# Altium integrated library Silicon Labs Clocks and Oscillators.IntLib: 678 symbols (part 27 of 45)
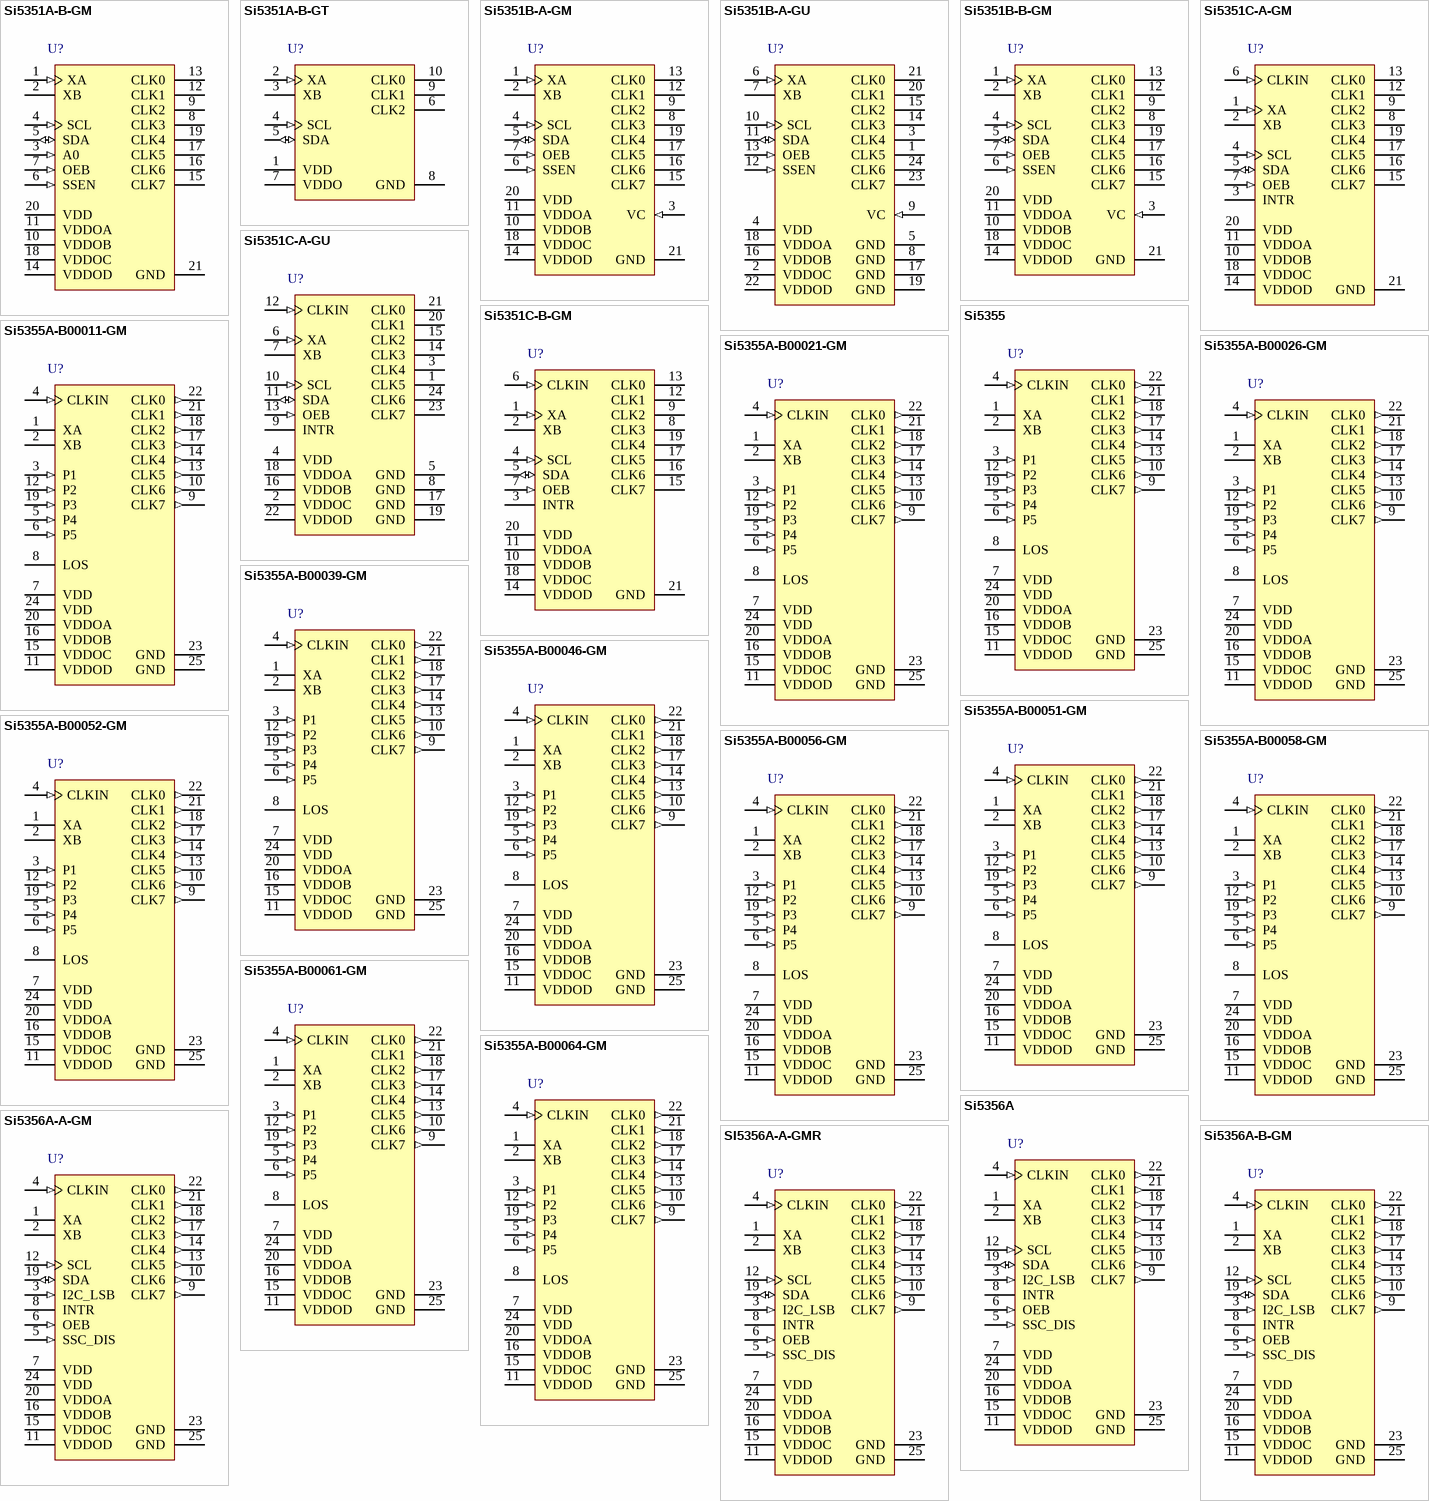
[diagram p70: symbols Si5351A-B-GM to Si5356A-B-GM]

## Si5355A-B00046-GM
designator U?
Any-Frequency Quad Frequency 8-Output Clock Generator, 1.8 / 2.5 / 3.3 V, 1 to 200 MHz Output, -40 to 85 degC, 24-pin QFN, Tray; Manufacturer: Silicon Labs; PartNumber: Si5355A-B00046-GM; Output Format: LVCMOS; Output Frequency (MHz): 1 to 200; Reference Inputs: 1; VDD: 1.8 V; 2.5 V; 3.3 V; Sub-Family: Clock Generators part2; DatasheetVersion: Rev. 1.1; PackageReference: QFN-24; PackageDescription: 24-Pin Quad-Flat No-Leads Package, Body 4 x 4 mm, Pitch 0.5 mm; Supplier 1: Mouser; Supplier Part Number 1: 634-SI5355AB00046-GM; Mounting Technology: Surface Mount; Code_JEDEC: MO-220; Code_IPC: J-STD-020; ComponentLink1Description: Manufacturer URL; ComponentLink1URL: http://www.silabs.com/; ComponentLink2Description: Datasheet; ComponentLink2URL: http://www.silabs.com/Support%20Documents/TechnicalDocs/Si5355.pdf; ComponentLink3Description: Package Specification; ComponentLink3URL: http://www.silabs.com/Support%20Documents/TechnicalDocs/Si5330.pdf
footprint SLAB-QFN-24-2500x2500TP_N (QFN, 24-Leads, Body 4x4mm, Pitch 0.5mm, Thermal Pad 2.5x2.5mm, IPC Medium Density)
footprint SLAB-QFN-24-2500x2500TP_L (QFN, 24-Leads, Body 4x4mm, Pitch 0.5mm, Thermal Pad 2.5x2.5mm, IPC High Density)
footprint SLAB-QFN-24-2500x2500TP_M (QFN, 24-Leads, Body 4x4mm, Pitch 0.5mm, Thermal Pad 2.5x2.5mm, IPC Low Density)
pins: 1 XA "External Crystal.", 2 XB "External Crystal.", 3 P1 (in) "Multi-Function Input (3.3 V Tolerant).", 4 CLKIN (in) "Single-Ended Input Clock.", 5 P4 (in) "Multi-Function Input.", 6 P5 (in) "Multi-Function Input.", 7 VDD (power) "Core Supply Voltage.", 8 LOS (oc) "Loss of Signal.", 9 CLK7 (out) "Output Clock 7.", 10 CLK6 (out) "Output Clock 6.", 11 VDDOD (power) "Clock Output Bank D Supply Voltage.", 12 P2 (in) "Multi-Function Input (3.3 V Tolerant).", 13 CLK5 (out) "Output Clock 5.", 14 CLK4 (out) "Output Clock 4.", 15 VDDOC (power) "Clock Output Bank C Supply Voltage.", 16 VDDOB (power) "Clock Output Bank B Supply Voltage.", 17 CLK3 (out) "Output Clock 3.", 18 CLK2 (out) "Output Clock 2.", 19 P3 (in) "Multi-Function Input (3.3 V Tolerant).", 20 VDDOA (power) "Clock Output Bank A Supply Voltage.", 21 CLK1 (out) "Output Clock 1.", 22 CLK0 (out) "Output Clock 0.", 23 GND (power) "Ground.", 24 VDD (power) "Core Supply Voltage.", 25 GND (power) "Ground Pad."

## Si5355A-B00051-GM
designator U?
Any-Frequency Quad Frequency 8-Output Clock Generator, 1.8 / 2.5 / 3.3 V, 1 to 200 MHz Output, -40 to 85 degC, 24-pin QFN, Tray; Manufacturer: Silicon Labs; PartNumber: Si5355A-B00051-GM; Output Format: LVCMOS; Output Frequency (MHz): 1 to 200; Reference Inputs: 1; VDD: 1.8 V; 2.5 V; 3.3 V; Sub-Family: Clock Generators part2; DatasheetVersion: Rev. 1.1; PackageReference: QFN-24; PackageDescription: 24-Pin Quad-Flat No-Leads Package, Body 4 x 4 mm, Pitch 0.5 mm; Supplier 1: Mouser; Supplier Part Number 1: 634-SI5355AB00051-GM; Mounting Technology: Surface Mount; Code_JEDEC: MO-220; Code_IPC: J-STD-020; ComponentLink1Description: Manufacturer URL; ComponentLink1URL: http://www.silabs.com/; ComponentLink2Description: Datasheet; ComponentLink2URL: http://www.silabs.com/Support%20Documents/TechnicalDocs/Si5355.pdf; ComponentLink3Description: Package Specification; ComponentLink3URL: http://www.silabs.com/Support%20Documents/TechnicalDocs/Si5330.pdf
footprint SLAB-QFN-24-2500x2500TP_N (QFN, 24-Leads, Body 4x4mm, Pitch 0.5mm, Thermal Pad 2.5x2.5mm, IPC Medium Density)
footprint SLAB-QFN-24-2500x2500TP_L (QFN, 24-Leads, Body 4x4mm, Pitch 0.5mm, Thermal Pad 2.5x2.5mm, IPC High Density)
footprint SLAB-QFN-24-2500x2500TP_M (QFN, 24-Leads, Body 4x4mm, Pitch 0.5mm, Thermal Pad 2.5x2.5mm, IPC Low Density)
pins: 1 XA "External Crystal.", 2 XB "External Crystal.", 3 P1 (in) "Multi-Function Input (3.3 V Tolerant).", 4 CLKIN (in) "Single-Ended Input Clock.", 5 P4 (in) "Multi-Function Input.", 6 P5 (in) "Multi-Function Input.", 7 VDD (power) "Core Supply Voltage.", 8 LOS (oc) "Loss of Signal.", 9 CLK7 (out) "Output Clock 7.", 10 CLK6 (out) "Output Clock 6.", 11 VDDOD (power) "Clock Output Bank D Supply Voltage.", 12 P2 (in) "Multi-Function Input (3.3 V Tolerant).", 13 CLK5 (out) "Output Clock 5.", 14 CLK4 (out) "Output Clock 4.", 15 VDDOC (power) "Clock Output Bank C Supply Voltage.", 16 VDDOB (power) "Clock Output Bank B Supply Voltage.", 17 CLK3 (out) "Output Clock 3.", 18 CLK2 (out) "Output Clock 2.", 19 P3 (in) "Multi-Function Input (3.3 V Tolerant).", 20 VDDOA (power) "Clock Output Bank A Supply Voltage.", 21 CLK1 (out) "Output Clock 1.", 22 CLK0 (out) "Output Clock 0.", 23 GND (power) "Ground.", 24 VDD (power) "Core Supply Voltage.", 25 GND (power) "Ground Pad."

## Si5355A-B00052-GM
designator U?
Any-Frequency Quad Frequency 8-Output Clock Generator, 1.8 / 2.5 / 3.3 V, 1 to 200 MHz Output, -40 to 85 degC, 24-pin QFN, Tray; Manufacturer: Silicon Labs; PartNumber: Si5355A-B00052-GM; Output Format: LVCMOS; Output Frequency (MHz): 1 to 200; Reference Inputs: 1; VDD: 1.8 V; 2.5 V; 3.3 V; Sub-Family: Clock Generators part2; DatasheetVersion: Rev. 1.1; PackageReference: QFN-24; PackageDescription: 24-Pin Quad-Flat No-Leads Package, Body 4 x 4 mm, Pitch 0.5 mm; Supplier 1: Mouser; Supplier Part Number 1: 634-SI5355AB00052-GM; Mounting Technology: Surface Mount; Code_JEDEC: MO-220; Code_IPC: J-STD-020; ComponentLink1Description: Manufacturer URL; ComponentLink1URL: http://www.silabs.com/; ComponentLink2Description: Datasheet; ComponentLink2URL: http://www.silabs.com/Support%20Documents/TechnicalDocs/Si5355.pdf; ComponentLink3Description: Package Specification; ComponentLink3URL: http://www.silabs.com/Support%20Documents/TechnicalDocs/Si5330.pdf
footprint SLAB-QFN-24-2500x2500TP_N (QFN, 24-Leads, Body 4x4mm, Pitch 0.5mm, Thermal Pad 2.5x2.5mm, IPC Medium Density)
footprint SLAB-QFN-24-2500x2500TP_L (QFN, 24-Leads, Body 4x4mm, Pitch 0.5mm, Thermal Pad 2.5x2.5mm, IPC High Density)
footprint SLAB-QFN-24-2500x2500TP_M (QFN, 24-Leads, Body 4x4mm, Pitch 0.5mm, Thermal Pad 2.5x2.5mm, IPC Low Density)
pins: 1 XA "External Crystal.", 2 XB "External Crystal.", 3 P1 (in) "Multi-Function Input (3.3 V Tolerant).", 4 CLKIN (in) "Single-Ended Input Clock.", 5 P4 (in) "Multi-Function Input.", 6 P5 (in) "Multi-Function Input.", 7 VDD (power) "Core Supply Voltage.", 8 LOS (oc) "Loss of Signal.", 9 CLK7 (out) "Output Clock 7.", 10 CLK6 (out) "Output Clock 6.", 11 VDDOD (power) "Clock Output Bank D Supply Voltage.", 12 P2 (in) "Multi-Function Input (3.3 V Tolerant).", 13 CLK5 (out) "Output Clock 5.", 14 CLK4 (out) "Output Clock 4.", 15 VDDOC (power) "Clock Output Bank C Supply Voltage.", 16 VDDOB (power) "Clock Output Bank B Supply Voltage.", 17 CLK3 (out) "Output Clock 3.", 18 CLK2 (out) "Output Clock 2.", 19 P3 (in) "Multi-Function Input (3.3 V Tolerant).", 20 VDDOA (power) "Clock Output Bank A Supply Voltage.", 21 CLK1 (out) "Output Clock 1.", 22 CLK0 (out) "Output Clock 0.", 23 GND (power) "Ground.", 24 VDD (power) "Core Supply Voltage.", 25 GND (power) "Ground Pad."

## Si5355A-B00056-GM
designator U?
Any-Frequency Quad Frequency 8-Output Clock Generator, 1.8 / 2.5 / 3.3 V, 1 to 200 MHz Output, -40 to 85 degC, 24-pin QFN, Tray; Manufacturer: Silicon Labs; PartNumber: Si5355A-B00056-GM; Output Format: LVCMOS; Output Frequency (MHz): 1 to 200; Reference Inputs: 1; VDD: 1.8 V; 2.5 V; 3.3 V; Sub-Family: Clock Generators part2; DatasheetVersion: Rev. 1.1; PackageReference: QFN-24; PackageDescription: 24-Pin Quad-Flat No-Leads Package, Body 4 x 4 mm, Pitch 0.5 mm; Supplier 1: Mouser; Supplier Part Number 1: 634-SI5355AB00056-GM; Mounting Technology: Surface Mount; Code_JEDEC: MO-220; Code_IPC: J-STD-020; ComponentLink1Description: Manufacturer URL; ComponentLink1URL: http://www.silabs.com/; ComponentLink2Description: Datasheet; ComponentLink2URL: http://www.silabs.com/Support%20Documents/TechnicalDocs/Si5355.pdf; ComponentLink3Description: Package Specification; ComponentLink3URL: http://www.silabs.com/Support%20Documents/TechnicalDocs/Si5330.pdf
footprint SLAB-QFN-24-2500x2500TP_N (QFN, 24-Leads, Body 4x4mm, Pitch 0.5mm, Thermal Pad 2.5x2.5mm, IPC Medium Density)
footprint SLAB-QFN-24-2500x2500TP_L (QFN, 24-Leads, Body 4x4mm, Pitch 0.5mm, Thermal Pad 2.5x2.5mm, IPC High Density)
footprint SLAB-QFN-24-2500x2500TP_M (QFN, 24-Leads, Body 4x4mm, Pitch 0.5mm, Thermal Pad 2.5x2.5mm, IPC Low Density)
pins: 1 XA "External Crystal.", 2 XB "External Crystal.", 3 P1 (in) "Multi-Function Input (3.3 V Tolerant).", 4 CLKIN (in) "Single-Ended Input Clock.", 5 P4 (in) "Multi-Function Input.", 6 P5 (in) "Multi-Function Input.", 7 VDD (power) "Core Supply Voltage.", 8 LOS (oc) "Loss of Signal.", 9 CLK7 (out) "Output Clock 7.", 10 CLK6 (out) "Output Clock 6.", 11 VDDOD (power) "Clock Output Bank D Supply Voltage.", 12 P2 (in) "Multi-Function Input (3.3 V Tolerant).", 13 CLK5 (out) "Output Clock 5.", 14 CLK4 (out) "Output Clock 4.", 15 VDDOC (power) "Clock Output Bank C Supply Voltage.", 16 VDDOB (power) "Clock Output Bank B Supply Voltage.", 17 CLK3 (out) "Output Clock 3.", 18 CLK2 (out) "Output Clock 2.", 19 P3 (in) "Multi-Function Input (3.3 V Tolerant).", 20 VDDOA (power) "Clock Output Bank A Supply Voltage.", 21 CLK1 (out) "Output Clock 1.", 22 CLK0 (out) "Output Clock 0.", 23 GND (power) "Ground.", 24 VDD (power) "Core Supply Voltage.", 25 GND (power) "Ground Pad."

## Si5355A-B00058-GM
designator U?
Any-Frequency Quad Frequency 8-Output Clock Generator, 1.8 / 2.5 / 3.3 V, 1 to 200 MHz Output, -40 to 85 degC, 24-pin QFN, Tray; Manufacturer: Silicon Labs; PartNumber: Si5355A-B00058-GM; Output Format: LVCMOS; Output Frequency (MHz): 1 to 200; Reference Inputs: 1; VDD: 1.8 V; 2.5 V; 3.3 V; Sub-Family: Clock Generators part2; DatasheetVersion: Rev. 1.1; PackageReference: QFN-24; PackageDescription: 24-Pin Quad-Flat No-Leads Package, Body 4 x 4 mm, Pitch 0.5 mm; Supplier 1: Mouser; Supplier Part Number 1: 634-SI5355AB00058-GM; Mounting Technology: Surface Mount; Code_JEDEC: MO-220; Code_IPC: J-STD-020; ComponentLink1Description: Manufacturer URL; ComponentLink1URL: http://www.silabs.com/; ComponentLink2Description: Datasheet; ComponentLink2URL: http://www.silabs.com/Support%20Documents/TechnicalDocs/Si5355.pdf; ComponentLink3Description: Package Specification; ComponentLink3URL: http://www.silabs.com/Support%20Documents/TechnicalDocs/Si5330.pdf
footprint SLAB-QFN-24-2500x2500TP_N (QFN, 24-Leads, Body 4x4mm, Pitch 0.5mm, Thermal Pad 2.5x2.5mm, IPC Medium Density)
footprint SLAB-QFN-24-2500x2500TP_L (QFN, 24-Leads, Body 4x4mm, Pitch 0.5mm, Thermal Pad 2.5x2.5mm, IPC High Density)
footprint SLAB-QFN-24-2500x2500TP_M (QFN, 24-Leads, Body 4x4mm, Pitch 0.5mm, Thermal Pad 2.5x2.5mm, IPC Low Density)
pins: 1 XA "External Crystal.", 2 XB "External Crystal.", 3 P1 (in) "Multi-Function Input (3.3 V Tolerant).", 4 CLKIN (in) "Single-Ended Input Clock.", 5 P4 (in) "Multi-Function Input.", 6 P5 (in) "Multi-Function Input.", 7 VDD (power) "Core Supply Voltage.", 8 LOS (oc) "Loss of Signal.", 9 CLK7 (out) "Output Clock 7.", 10 CLK6 (out) "Output Clock 6.", 11 VDDOD (power) "Clock Output Bank D Supply Voltage.", 12 P2 (in) "Multi-Function Input (3.3 V Tolerant).", 13 CLK5 (out) "Output Clock 5.", 14 CLK4 (out) "Output Clock 4.", 15 VDDOC (power) "Clock Output Bank C Supply Voltage.", 16 VDDOB (power) "Clock Output Bank B Supply Voltage.", 17 CLK3 (out) "Output Clock 3.", 18 CLK2 (out) "Output Clock 2.", 19 P3 (in) "Multi-Function Input (3.3 V Tolerant).", 20 VDDOA (power) "Clock Output Bank A Supply Voltage.", 21 CLK1 (out) "Output Clock 1.", 22 CLK0 (out) "Output Clock 0.", 23 GND (power) "Ground.", 24 VDD (power) "Core Supply Voltage.", 25 GND (power) "Ground Pad."

## Si5355A-B00061-GM
designator U?
Any-Frequency Quad Frequency 8-Output Clock Generator, 1.8 / 2.5 / 3.3 V, 1 to 200 MHz Output, -40 to 85 degC, 24-pin QFN, Tray; Manufacturer: Silicon Labs; PartNumber: Si5355A-B00061-GM; Output Format: LVCMOS; Output Frequency (MHz): 1 to 200; Reference Inputs: 1; VDD: 1.8 V; 2.5 V; 3.3 V; Sub-Family: Clock Generators part2; DatasheetVersion: Rev. 1.1; PackageReference: QFN-24; PackageDescription: 24-Pin Quad-Flat No-Leads Package, Body 4 x 4 mm, Pitch 0.5 mm; Supplier 1: Mouser; Supplier Part Number 1: 634-SI5355AB00061-GM; Mounting Technology: Surface Mount; Code_JEDEC: MO-220; Code_IPC: J-STD-020; ComponentLink1Description: Manufacturer URL; ComponentLink1URL: http://www.silabs.com/; ComponentLink2Description: Datasheet; ComponentLink2URL: http://www.silabs.com/Support%20Documents/TechnicalDocs/Si5355.pdf; ComponentLink3Description: Package Specification; ComponentLink3URL: http://www.silabs.com/Support%20Documents/TechnicalDocs/Si5330.pdf
footprint SLAB-QFN-24-2500x2500TP_N (QFN, 24-Leads, Body 4x4mm, Pitch 0.5mm, Thermal Pad 2.5x2.5mm, IPC Medium Density)
footprint SLAB-QFN-24-2500x2500TP_L (QFN, 24-Leads, Body 4x4mm, Pitch 0.5mm, Thermal Pad 2.5x2.5mm, IPC High Density)
footprint SLAB-QFN-24-2500x2500TP_M (QFN, 24-Leads, Body 4x4mm, Pitch 0.5mm, Thermal Pad 2.5x2.5mm, IPC Low Density)
pins: 1 XA "External Crystal.", 2 XB "External Crystal.", 3 P1 (in) "Multi-Function Input (3.3 V Tolerant).", 4 CLKIN (in) "Single-Ended Input Clock.", 5 P4 (in) "Multi-Function Input.", 6 P5 (in) "Multi-Function Input.", 7 VDD (power) "Core Supply Voltage.", 8 LOS (oc) "Loss of Signal.", 9 CLK7 (out) "Output Clock 7.", 10 CLK6 (out) "Output Clock 6.", 11 VDDOD (power) "Clock Output Bank D Supply Voltage.", 12 P2 (in) "Multi-Function Input (3.3 V Tolerant).", 13 CLK5 (out) "Output Clock 5.", 14 CLK4 (out) "Output Clock 4.", 15 VDDOC (power) "Clock Output Bank C Supply Voltage.", 16 VDDOB (power) "Clock Output Bank B Supply Voltage.", 17 CLK3 (out) "Output Clock 3.", 18 CLK2 (out) "Output Clock 2.", 19 P3 (in) "Multi-Function Input (3.3 V Tolerant).", 20 VDDOA (power) "Clock Output Bank A Supply Voltage.", 21 CLK1 (out) "Output Clock 1.", 22 CLK0 (out) "Output Clock 0.", 23 GND (power) "Ground.", 24 VDD (power) "Core Supply Voltage.", 25 GND (power) "Ground Pad."

## Si5355A-B00064-GM
designator U?
Any-Frequency Quad Frequency 8-Output Clock Generator, 1.8 / 2.5 / 3.3 V, 1 to 200 MHz Output, -40 to 85 degC, 24-pin QFN, Tray; Manufacturer: Silicon Labs; PartNumber: Si5355A-B00064-GM; Output Format: LVCMOS; Output Frequency (MHz): 1 to 200; Reference Inputs: 1; VDD: 1.8 V; 2.5 V; 3.3 V; Sub-Family: Clock Generators part2; DatasheetVersion: Rev. 1.1; PackageReference: QFN-24; PackageDescription: 24-Pin Quad-Flat No-Leads Package, Body 4 x 4 mm, Pitch 0.5 mm; Supplier 1: Mouser; Supplier Part Number 1: 634-SI5355AB00064-GM; Mounting Technology: Surface Mount; Code_JEDEC: MO-220; Code_IPC: J-STD-020; ComponentLink1Description: Manufacturer URL; ComponentLink1URL: http://www.silabs.com/; ComponentLink2Description: Datasheet; ComponentLink2URL: http://www.silabs.com/Support%20Documents/TechnicalDocs/Si5355.pdf; ComponentLink3Description: Package Specification; ComponentLink3URL: http://www.silabs.com/Support%20Documents/TechnicalDocs/Si5330.pdf
footprint SLAB-QFN-24-2500x2500TP_N (QFN, 24-Leads, Body 4x4mm, Pitch 0.5mm, Thermal Pad 2.5x2.5mm, IPC Medium Density)
footprint SLAB-QFN-24-2500x2500TP_L (QFN, 24-Leads, Body 4x4mm, Pitch 0.5mm, Thermal Pad 2.5x2.5mm, IPC High Density)
footprint SLAB-QFN-24-2500x2500TP_M (QFN, 24-Leads, Body 4x4mm, Pitch 0.5mm, Thermal Pad 2.5x2.5mm, IPC Low Density)
pins: 1 XA "External Crystal.", 2 XB "External Crystal.", 3 P1 (in) "Multi-Function Input (3.3 V Tolerant).", 4 CLKIN (in) "Single-Ended Input Clock.", 5 P4 (in) "Multi-Function Input.", 6 P5 (in) "Multi-Function Input.", 7 VDD (power) "Core Supply Voltage.", 8 LOS (oc) "Loss of Signal.", 9 CLK7 (out) "Output Clock 7.", 10 CLK6 (out) "Output Clock 6.", 11 VDDOD (power) "Clock Output Bank D Supply Voltage.", 12 P2 (in) "Multi-Function Input (3.3 V Tolerant).", 13 CLK5 (out) "Output Clock 5.", 14 CLK4 (out) "Output Clock 4.", 15 VDDOC (power) "Clock Output Bank C Supply Voltage.", 16 VDDOB (power) "Clock Output Bank B Supply Voltage.", 17 CLK3 (out) "Output Clock 3.", 18 CLK2 (out) "Output Clock 2.", 19 P3 (in) "Multi-Function Input (3.3 V Tolerant).", 20 VDDOA (power) "Clock Output Bank A Supply Voltage.", 21 CLK1 (out) "Output Clock 1.", 22 CLK0 (out) "Output Clock 0.", 23 GND (power) "Ground.", 24 VDD (power) "Core Supply Voltage.", 25 GND (power) "Ground Pad."

## Si5356A
designator U?
I2C Programmable, Any-Frequency, Quad Frequency 8-Output Clock Generator, 1.8 / 2.5 / 3.3 V, 1 to 200 MHz Output, -40 to 85 degC, 24-pin QFN; Manufacturer: Silicon Labs; PartNumber: Si5356A; Output Format: LVCMOS; Output Frequency (MHz): 1 to 200; Reference Inputs: 1; VDD: 1.8 V; 2.5 V; 3.3 V; Sub-Family: Clock Generators; DatasheetVersion: Rev. 1.2; PackageReference: QFN-24; PackageDescription: 24-Pin Quad-Flat No-Leads Package, Body 4 x 4 mm, Pitch 0.5 mm; Mounting Technology: Surface Mount; Code_JEDEC: MO-220; Code_IPC: J-STD-020; ComponentLink1Description: Manufacturer URL; ComponentLink1URL: http://www.silabs.com/; ComponentLink2Description: Datasheet; ComponentLink2URL: http://www.silabs.com/Support%20Documents/TechnicalDocs/Si5356A.pdf; ComponentLink3Description: Package Specification; ComponentLink3URL: http://www.silabs.com/Support%20Documents/TechnicalDocs/Si5330.pdf
footprint SLAB-QFN-24-2500x2500TP_N (QFN, 24-Leads, Body 4x4mm, Pitch 0.5mm, Thermal Pad 2.5x2.5mm, IPC Medium Density)
footprint SLAB-QFN-24-2500x2500TP_L (QFN, 24-Leads, Body 4x4mm, Pitch 0.5mm, Thermal Pad 2.5x2.5mm, IPC High Density)
footprint SLAB-QFN-24-2500x2500TP_M (QFN, 24-Leads, Body 4x4mm, Pitch 0.5mm, Thermal Pad 2.5x2.5mm, IPC Low Density)
pins: 1 XA "External Crystal.", 2 XB "External Crystal.", 3 I2C_LSB (in) "I2C LSB Address Bit (3.3 V Tolerant).", 4 CLKIN (in) "Single-Ended Input Clock.", 5 SSC_DIS (in) "Spread Spectrum Disable.", 6 OEB (in) "Output Enable (Active Low).", 7 VDD (power) "Core Supply Voltage.", 8 INTR (oc) "Interrupt.", 9 CLK7 (out) "Output Clock 7.", 10 CLK6 (out) "Output Clock 6.", 11 VDDOD (power) "Clock Output Bank D Supply Voltage.", 12 SCL (in) "I2C Serial Clock Input (3.3 V Tolerant).", 13 CLK5 (out) "Output Clock 5.", 14 CLK4 (out) "Output Clock 4.", 15 VDDOC (power) "Clock Output Bank C Supply Voltage.", 16 VDDOB (power) "Clock Output Bank B Supply Voltage.", 17 CLK3 (out) "Output Clock 3.", 18 CLK2 (out) "Output Clock 2.", 19 SDA (io) "I2C Serial Data (3.3 V Tolerant).", 20 VDDOA (power) "Clock Output Bank A Supply Voltage.", 21 CLK1 (out) "Output Clock 1.", 22 CLK0 (out) "Output Clock 0.", 23 GND (power) "Ground.", 24 VDD (power) "Core Supply Voltage.", 25 GND (power) "Ground Pad."

## Si5356A-A-GM
designator U?
I2C Programmable, Any-Frequency, Quad Frequency 8-Output Clock Generator, 1.8 / 2.5 / 3.3 V, 1 to 200 MHz Output, -40 to 85 degC, 24-pin QFN; Manufacturer: Silicon Labs; PartNumber: Si5356A-A-GM; Output Format: LVCMOS; Output Frequency (MHz): 1 to 200; Reference Inputs: 1; VDD: 1.8 V; 2.5 V; 3.3 V; Sub-Family: Clock Generators part2; DatasheetVersion: Rev. 1.2; PackageReference: QFN-24; PackageDescription: 24-Pin Quad-Flat No-Leads Package, Body 4 x 4 mm, Pitch 0.5 mm; Supplier 1: Digi-Key; Supplier Part Number 1: 336-1749-5-ND; Supplier 2: Mouser; Supplier Part Number 2: 634-SI5356A-A-GM; Mounting Technology: Surface Mount; Code_JEDEC: MO-220; Code_IPC: J-STD-020; ComponentLink1Description: Manufacturer URL; ComponentLink1URL: http://www.silabs.com/; ComponentLink2Description: Datasheet; ComponentLink2URL: http://www.silabs.com/Support%20Documents/TechnicalDocs/Si5356A.pdf; ComponentLink3Description: Package Specification; ComponentLink3URL: http://www.silabs.com/Support%20Documents/TechnicalDocs/Si5330.pdf
footprint SLAB-QFN-24-2500x2500TP_N (QFN, 24-Leads, Body 4x4mm, Pitch 0.5mm, Thermal Pad 2.5x2.5mm, IPC Medium Density)
footprint SLAB-QFN-24-2500x2500TP_L (QFN, 24-Leads, Body 4x4mm, Pitch 0.5mm, Thermal Pad 2.5x2.5mm, IPC High Density)
footprint SLAB-QFN-24-2500x2500TP_M (QFN, 24-Leads, Body 4x4mm, Pitch 0.5mm, Thermal Pad 2.5x2.5mm, IPC Low Density)
pins: 1 XA "External Crystal.", 2 XB "External Crystal.", 3 I2C_LSB (in) "I2C LSB Address Bit (3.3 V Tolerant).", 4 CLKIN (in) "Single-Ended Input Clock.", 5 SSC_DIS (in) "Spread Spectrum Disable.", 6 OEB (in) "Output Enable (Active Low).", 7 VDD (power) "Core Supply Voltage.", 8 INTR (oc) "Interrupt.", 9 CLK7 (out) "Output Clock 7.", 10 CLK6 (out) "Output Clock 6.", 11 VDDOD (power) "Clock Output Bank D Supply Voltage.", 12 SCL (in) "I2C Serial Clock Input (3.3 V Tolerant).", 13 CLK5 (out) "Output Clock 5.", 14 CLK4 (out) "Output Clock 4.", 15 VDDOC (power) "Clock Output Bank C Supply Voltage.", 16 VDDOB (power) "Clock Output Bank B Supply Voltage.", 17 CLK3 (out) "Output Clock 3.", 18 CLK2 (out) "Output Clock 2.", 19 SDA (io) "I2C Serial Data (3.3 V Tolerant).", 20 VDDOA (power) "Clock Output Bank A Supply Voltage.", 21 CLK1 (out) "Output Clock 1.", 22 CLK0 (out) "Output Clock 0.", 23 GND (power) "Ground.", 24 VDD (power) "Core Supply Voltage.", 25 GND (power) "Ground Pad."

## SI5356A-A-GMR
designator U?
I2C Programmable, Any-Frequency, Quad Frequency 8-Output Clock Generator, 1.8 / 2.5 / 3.3 V, 200 MHz Max Output, -40 to 85 degC, 24-pin QFN, Tape and Reel; Manufacturer: Silicon Labs; PartNumber: SI5356A-A-GMR; Output Format: LVCMOS; Output Frequency (MHz): 1 to 200; Phase Jitter (RMS): 2 ps; Reference Inputs: 1; VDD: 1.8 V; 2.5 V; 3.3 V; Sub-Family: Clock Generators part2; DatasheetVersion: Rev. 1.2; PackageReference: QFN-24; PackageDescription: 24-Pin Quad-Flat No-Leads Package, Body 4 x 4 mm, Pitch 0.5 mm; Supplier 1: Mouser; Supplier Part Number 1: 634-SI5356A-A-GMR; Packing: Tape and Reel; Mounting Technology: Surface Mount; Code_JEDEC: MO-220; Code_IPC: J-STD-020; ComponentLink1Description: Manufacturer URL; ComponentLink1URL: http://www.silabs.com/; ComponentLink2Description: Datasheet; ComponentLink2URL: http://www.silabs.com/Support%20Documents/TechnicalDocs/Si5356A.pdf; ComponentLink3Description: Package Specification; ComponentLink3URL: http://www.silabs.com/Support%20Documents/TechnicalDocs/Si5330.pdf
footprint SLAB-QFN-24-2500x2500TP_N (QFN, 24-Leads, Body 4x4mm, Pitch 0.5mm, Thermal Pad 2.5x2.5mm, IPC Medium Density)
footprint SLAB-QFN-24-2500x2500TP_L (QFN, 24-Leads, Body 4x4mm, Pitch 0.5mm, Thermal Pad 2.5x2.5mm, IPC High Density)
footprint SLAB-QFN-24-2500x2500TP_M (QFN, 24-Leads, Body 4x4mm, Pitch 0.5mm, Thermal Pad 2.5x2.5mm, IPC Low Density)
pins: 1 XA "External Crystal.", 2 XB "External Crystal.", 3 I2C_LSB (in) "I2C LSB Address Bit (3.3 V Tolerant).", 4 CLKIN (in) "Single-Ended Input Clock.", 5 SSC_DIS (in) "Spread Spectrum Disable.", 6 OEB (in) "Output Enable (Active Low).", 7 VDD (power) "Core Supply Voltage.", 8 INTR (oc) "Interrupt.", 9 CLK7 (out) "Output Clock 7.", 10 CLK6 (out) "Output Clock 6.", 11 VDDOD (power) "Clock Output Bank D Supply Voltage.", 12 SCL (in) "I2C Serial Clock Input (3.3 V Tolerant).", 13 CLK5 (out) "Output Clock 5.", 14 CLK4 (out) "Output Clock 4.", 15 VDDOC (power) "Clock Output Bank C Supply Voltage.", 16 VDDOB (power) "Clock Output Bank B Supply Voltage.", 17 CLK3 (out) "Output Clock 3.", 18 CLK2 (out) "Output Clock 2.", 19 SDA (io) "I2C Serial Data (3.3 V Tolerant).", 20 VDDOA (power) "Clock Output Bank A Supply Voltage.", 21 CLK1 (out) "Output Clock 1.", 22 CLK0 (out) "Output Clock 0.", 23 GND (power) "Ground.", 24 VDD (power) "Core Supply Voltage.", 25 GND (power) "Ground Pad."

## Si5356A-B-GM
designator U?
I2C Programmable, Any-Frequency, Quad Frequency 8-Output Clock Generator, 1.8 / 2.5 / 3.3 V, 1 to 200 MHz Output, -40 to 85 degC, 24-pin QFN; Manufacturer: Silicon Labs; PartNumber: Si5356A-B-GM; Output Format: LVCMOS; Output Frequency (MHz): 1 to 200; Reference Inputs: 1; VDD: 1.8 V; 2.5 V; 3.3 V; Sub-Family: Clock Generators part2; DatasheetVersion: Rev. 1.2; PackageReference: QFN-24; PackageDescription: 24-Pin Quad-Flat No-Leads Package, Body 4 x 4 mm, Pitch 0.5 mm; Supplier 1: Digi-Key; Supplier Part Number 1: SI5356A-B-GM-ND; Supplier 2: Mouser; Supplier Part Number 2: 634-SI5356A-B-GM; Mounting Technology: Surface Mount; Code_JEDEC: MO-220; Code_IPC: J-STD-020; ComponentLink1Description: Manufacturer URL; ComponentLink1URL: http://www.silabs.com/; ComponentLink2Description: Datasheet; ComponentLink2URL: http://www.silabs.com/Support%20Documents/TechnicalDocs/Si5356A.pdf; ComponentLink3Description: Package Specification; ComponentLink3URL: http://www.silabs.com/Support%20Documents/TechnicalDocs/Si5330.pdf
footprint SLAB-QFN-24-2500x2500TP_N (QFN, 24-Leads, Body 4x4mm, Pitch 0.5mm, Thermal Pad 2.5x2.5mm, IPC Medium Density)
footprint SLAB-QFN-24-2500x2500TP_L (QFN, 24-Leads, Body 4x4mm, Pitch 0.5mm, Thermal Pad 2.5x2.5mm, IPC High Density)
footprint SLAB-QFN-24-2500x2500TP_M (QFN, 24-Leads, Body 4x4mm, Pitch 0.5mm, Thermal Pad 2.5x2.5mm, IPC Low Density)
pins: 1 XA "External Crystal.", 2 XB "External Crystal.", 3 I2C_LSB (in) "I2C LSB Address Bit (3.3 V Tolerant).", 4 CLKIN (in) "Single-Ended Input Clock.", 5 SSC_DIS (in) "Spread Spectrum Disable.", 6 OEB (in) "Output Enable (Active Low).", 7 VDD (power) "Core Supply Voltage.", 8 INTR (oc) "Interrupt.", 9 CLK7 (out) "Output Clock 7.", 10 CLK6 (out) "Output Clock 6.", 11 VDDOD (power) "Clock Output Bank D Supply Voltage.", 12 SCL (in) "I2C Serial Clock Input (3.3 V Tolerant).", 13 CLK5 (out) "Output Clock 5.", 14 CLK4 (out) "Output Clock 4.", 15 VDDOC (power) "Clock Output Bank C Supply Voltage.", 16 VDDOB (power) "Clock Output Bank B Supply Voltage.", 17 CLK3 (out) "Output Clock 3.", 18 CLK2 (out) "Output Clock 2.", 19 SDA (io) "I2C Serial Data (3.3 V Tolerant).", 20 VDDOA (power) "Clock Output Bank A Supply Voltage.", 21 CLK1 (out) "Output Clock 1.", 22 CLK0 (out) "Output Clock 0.", 23 GND (power) "Ground.", 24 VDD (power) "Core Supply Voltage.", 25 GND (power) "Ground Pad."

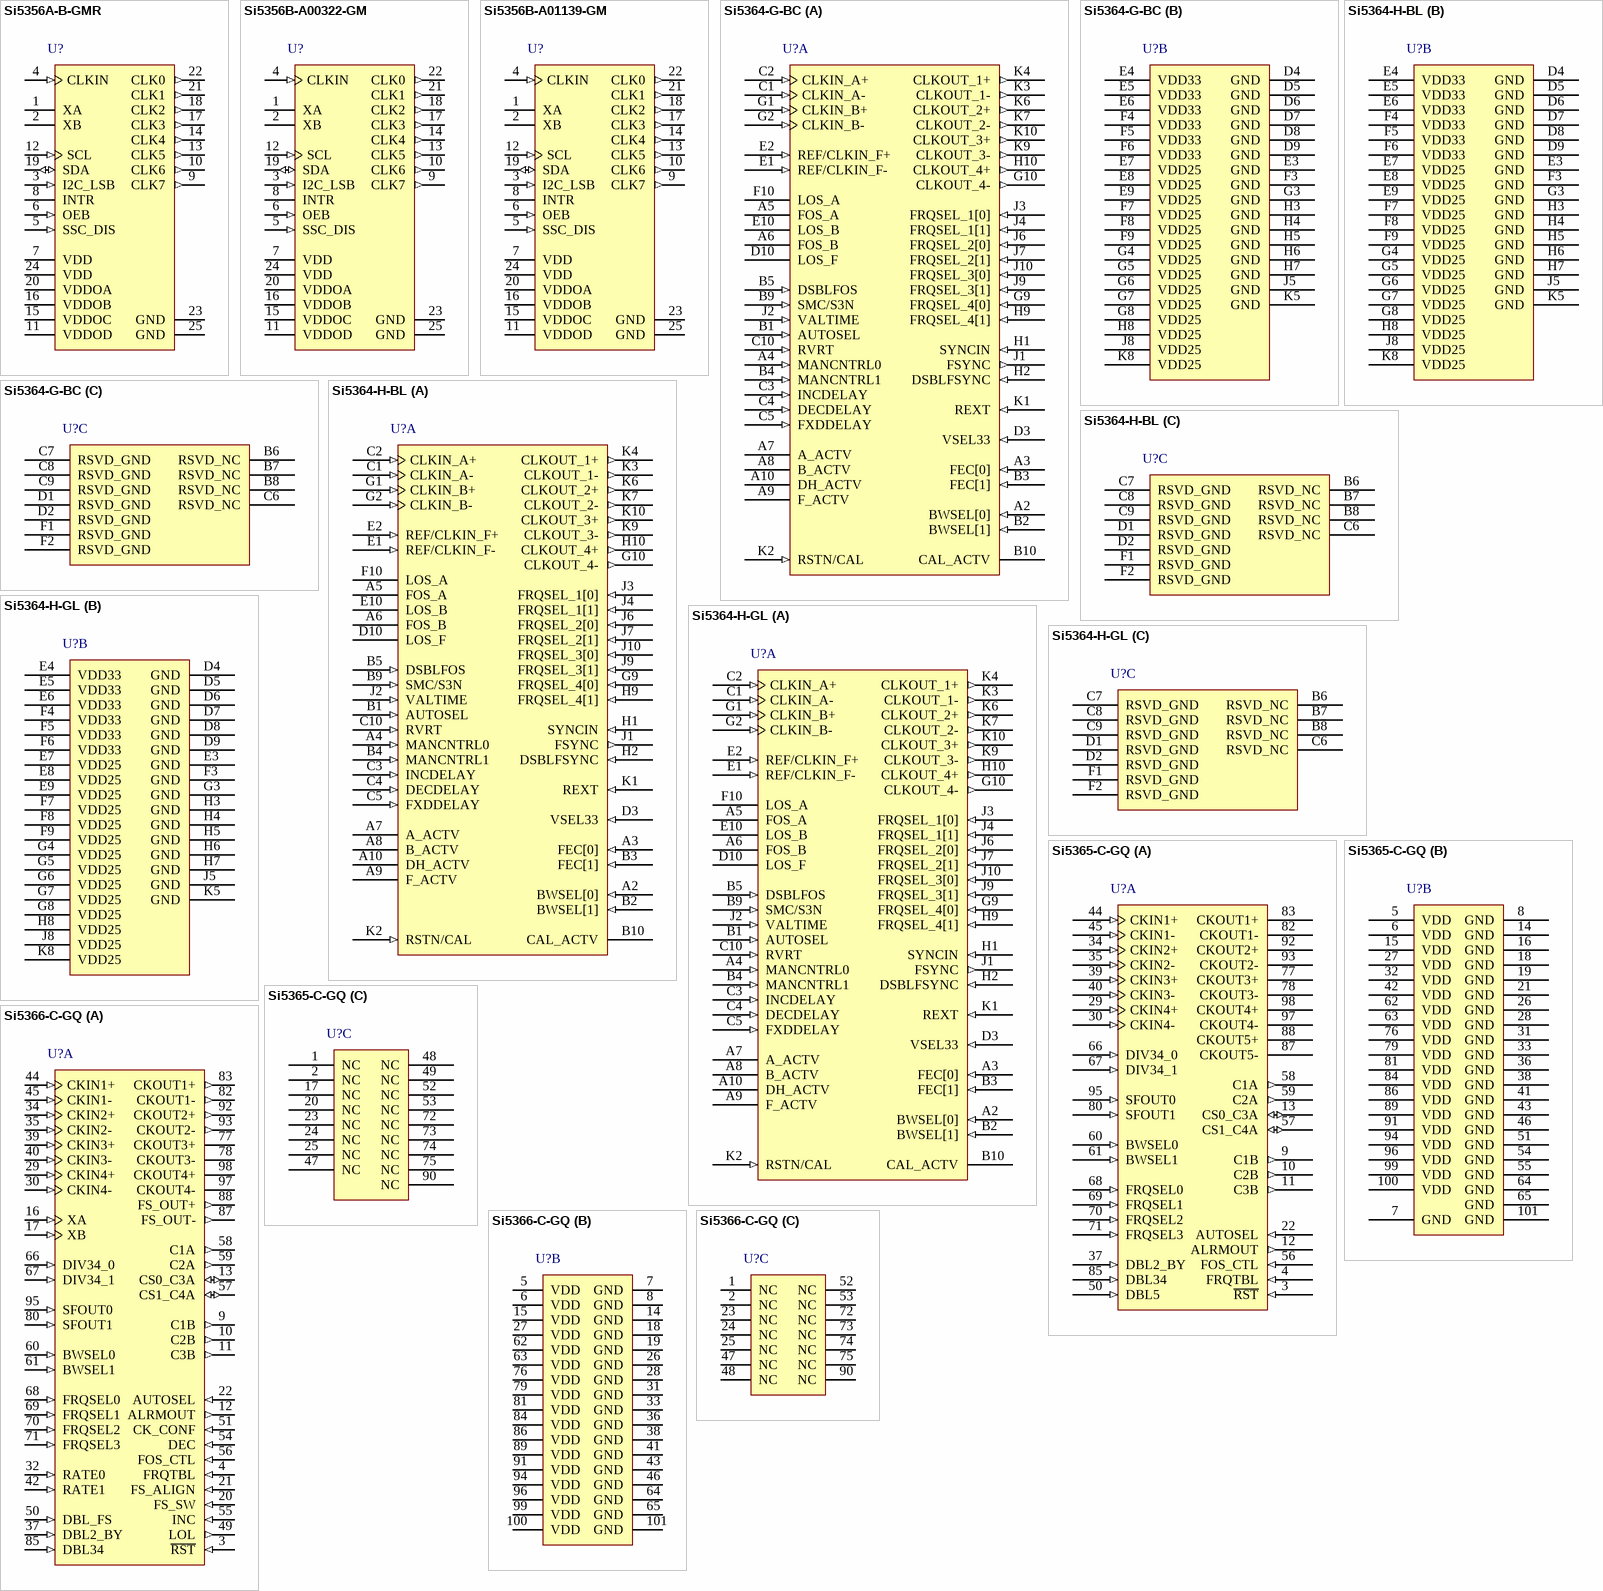
[diagram p27: symbols Si5356A-B-GMR to Si5366-C-GQ]

## Si5356A-B-GMR
designator U?
I2C Programmable, Any-Frequency, Quad Frequency 8-Output Clock Generator, 1.8 / 2.5 / 3.3 V, 1 to 200 MHz Output, -40 to 85 degC, 24-pin QFN, Tape and Reel; Manufacturer: Silicon Labs; PartNumber: Si5356A-B-GMR; Output Format: LVCMOS; Output Frequency (MHz): 1 to 200; Phase Jitter (RMS): 2 ps; Reference Inputs: 1; VDD: 1.8 V; 2.5 V; 3.3 V; Sub-Family: Clock Generators part2; DatasheetVersion: Rev. 1.2; PackageReference: QFN-24; PackageDescription: 24-Pin Quad-Flat No-Leads Package, Body 4 x 4 mm, Pitch 0.5 mm; Supplier 1: Digi-Key; Supplier Part Number 1: SI5356A-B-GMR-ND; Supplier 2: Mouser; Supplier Part Number 2: 634-SI5356A-B-GMR; Packing: Tape and Reel; Mounting Technology: Surface Mount; Code_JEDEC: MO-220; Code_IPC: J-STD-020; ComponentLink1Description: Manufacturer URL; ComponentLink1URL: http://www.silabs.com/; ComponentLink2Description: Datasheet; ComponentLink2URL: http://www.silabs.com/Support%20Documents/TechnicalDocs/Si5356A.pdf; ComponentLink3Description: Package Specification; ComponentLink3URL: http://www.silabs.com/Support%20Documents/TechnicalDocs/Si5330.pdf
footprint SLAB-QFN-24-2500x2500TP_N (QFN, 24-Leads, Body 4x4mm, Pitch 0.5mm, Thermal Pad 2.5x2.5mm, IPC Medium Density)
footprint SLAB-QFN-24-2500x2500TP_L (QFN, 24-Leads, Body 4x4mm, Pitch 0.5mm, Thermal Pad 2.5x2.5mm, IPC High Density)
footprint SLAB-QFN-24-2500x2500TP_M (QFN, 24-Leads, Body 4x4mm, Pitch 0.5mm, Thermal Pad 2.5x2.5mm, IPC Low Density)
pins: 1 XA "External Crystal.", 2 XB "External Crystal.", 3 I2C_LSB (in) "I2C LSB Address Bit (3.3 V Tolerant).", 4 CLKIN (in) "Single-Ended Input Clock.", 5 SSC_DIS (in) "Spread Spectrum Disable.", 6 OEB (in) "Output Enable (Active Low).", 7 VDD (power) "Core Supply Voltage.", 8 INTR (oc) "Interrupt.", 9 CLK7 (out) "Output Clock 7.", 10 CLK6 (out) "Output Clock 6.", 11 VDDOD (power) "Clock Output Bank D Supply Voltage.", 12 SCL (in) "I2C Serial Clock Input (3.3 V Tolerant).", 13 CLK5 (out) "Output Clock 5.", 14 CLK4 (out) "Output Clock 4.", 15 VDDOC (power) "Clock Output Bank C Supply Voltage.", 16 VDDOB (power) "Clock Output Bank B Supply Voltage.", 17 CLK3 (out) "Output Clock 3.", 18 CLK2 (out) "Output Clock 2.", 19 SDA (io) "I2C Serial Data (3.3 V Tolerant).", 20 VDDOA (power) "Clock Output Bank A Supply Voltage.", 21 CLK1 (out) "Output Clock 1.", 22 CLK0 (out) "Output Clock 0.", 23 GND (power) "Ground.", 24 VDD (power) "Core Supply Voltage.", 25 GND (power) "Ground Pad."

## Si5356B-A00322-GM
designator U?
I2C Programmable, Any-Frequency, Quad Frequency 8-Output Clock Generator, 1.5 / 2.5 / 3.3 V, 1 to 200 MHz Output, -40 to 85 degC, 24-pin QFN; Manufacturer: Silicon Labs; PartNumber: Si5356B-A00322-GM; Output Format: LVCMOS; Output Frequency (MHz): 1 to 200; Reference Inputs: 1; VDD: 1.5V; 2.5 V; 3.3 V; Sub-Family: Clock Generators; DatasheetVersion: Rev. 1.1; PackageReference: QFN-24; PackageDescription: 24-Pin Quad-Flat No-Leads Package, Body 4 x 4 mm, Pitch 0.5 mm; Mounting Technology: Surface Mount; Code_JEDEC: MO-220; Code_IPC: J-STD-020; ComponentLink1Description: Manufacturer URL; ComponentLink1URL: http://www.silabs.com/; ComponentLink2Description: Datasheet; ComponentLink2URL: http://www.silabs.com/support%20documents/technicaldocs/Si5356B.pdf; ComponentLink3Description: Package Specification; ComponentLink3URL: http://www.silabs.com/Support%20Documents/TechnicalDocs/Si5330.pdf
footprint SLAB-QFN-24-2500x2500TP_N (QFN, 24-Leads, Body 4x4mm, Pitch 0.5mm, Thermal Pad 2.5x2.5mm, IPC Medium Density)
footprint SLAB-QFN-24-2500x2500TP_L (QFN, 24-Leads, Body 4x4mm, Pitch 0.5mm, Thermal Pad 2.5x2.5mm, IPC High Density)
footprint SLAB-QFN-24-2500x2500TP_M (QFN, 24-Leads, Body 4x4mm, Pitch 0.5mm, Thermal Pad 2.5x2.5mm, IPC Low Density)
pins: 1 XA "External Crystal.", 2 XB "External Crystal.", 3 I2C_LSB (in) "I2C LSB Address Bit (3.3 V Tolerant).", 4 CLKIN (in) "Single-Ended Input Clock.", 5 SSC_DIS (in) "Spread Spectrum Disable.", 6 OEB (in) "Output Enable (Active Low).", 7 VDD (power) "Core Supply Voltage.", 8 INTR (oc) "Interrupt.", 9 CLK7 (out) "Output Clock 7.", 10 CLK6 (out) "Output Clock 6.", 11 VDDOD (power) "Clock Output Bank D Supply Voltage.", 12 SCL (in) "I2C Serial Clock Input (3.3 V Tolerant).", 13 CLK5 (out) "Output Clock 5.", 14 CLK4 (out) "Output Clock 4.", 15 VDDOC (power) "Clock Output Bank C Supply Voltage.", 16 VDDOB (power) "Clock Output Bank B Supply Voltage.", 17 CLK3 (out) "Output Clock 3.", 18 CLK2 (out) "Output Clock 2.", 19 SDA (io) "I2C Serial Data (3.3 V Tolerant).", 20 VDDOA (power) "Clock Output Bank A Supply Voltage.", 21 CLK1 (out) "Output Clock 1.", 22 CLK0 (out) "Output Clock 0.", 23 GND (power) "Ground.", 24 VDD (power) "Core Supply Voltage.", 25 GND (power) "Ground Pad."

## Si5356B-A01139-GM
designator U?
I2C Programmable, Any-Frequency, Quad Frequency 8-Output Clock Generator, 1.5 / 2.5 / 3.3 V, 1 to 200 MHz Output, -40 to 85 degC, 24-pin QFN; Manufacturer: Silicon Labs; PartNumber: Si5356B-A01139-GM; Output Format: LVCMOS; Output Frequency (MHz): 1 to 200; Reference Inputs: 1; VDD: 1.5V; 2.5 V; 3.3 V; Sub-Family: Clock Generators; DatasheetVersion: Rev. 1.1; PackageReference: QFN-24; PackageDescription: 24-Pin Quad-Flat No-Leads Package, Body 4 x 4 mm, Pitch 0.5 mm; Mounting Technology: Surface Mount; Code_JEDEC: MO-220; Code_IPC: J-STD-020; ComponentLink1Description: Manufacturer URL; ComponentLink1URL: http://www.silabs.com/; ComponentLink2Description: Datasheet; ComponentLink2URL: http://www.silabs.com/support%20documents/technicaldocs/Si5356B.pdf; ComponentLink3Description: Package Specification; ComponentLink3URL: http://www.silabs.com/Support%20Documents/TechnicalDocs/Si5330.pdf
footprint SLAB-QFN-24-2500x2500TP_N (QFN, 24-Leads, Body 4x4mm, Pitch 0.5mm, Thermal Pad 2.5x2.5mm, IPC Medium Density)
footprint SLAB-QFN-24-2500x2500TP_L (QFN, 24-Leads, Body 4x4mm, Pitch 0.5mm, Thermal Pad 2.5x2.5mm, IPC High Density)
footprint SLAB-QFN-24-2500x2500TP_M (QFN, 24-Leads, Body 4x4mm, Pitch 0.5mm, Thermal Pad 2.5x2.5mm, IPC Low Density)
pins: 1 XA "External Crystal.", 2 XB "External Crystal.", 3 I2C_LSB (in) "I2C LSB Address Bit (3.3 V Tolerant).", 4 CLKIN (in) "Single-Ended Input Clock.", 5 SSC_DIS (in) "Spread Spectrum Disable.", 6 OEB (in) "Output Enable (Active Low).", 7 VDD (power) "Core Supply Voltage.", 8 INTR (oc) "Interrupt.", 9 CLK7 (out) "Output Clock 7.", 10 CLK6 (out) "Output Clock 6.", 11 VDDOD (power) "Clock Output Bank D Supply Voltage.", 12 SCL (in) "I2C Serial Clock Input (3.3 V Tolerant).", 13 CLK5 (out) "Output Clock 5.", 14 CLK4 (out) "Output Clock 4.", 15 VDDOC (power) "Clock Output Bank C Supply Voltage.", 16 VDDOB (power) "Clock Output Bank B Supply Voltage.", 17 CLK3 (out) "Output Clock 3.", 18 CLK2 (out) "Output Clock 2.", 19 SDA (io) "I2C Serial Data (3.3 V Tolerant).", 20 VDDOA (power) "Clock Output Bank A Supply Voltage.", 21 CLK1 (out) "Output Clock 1.", 22 CLK0 (out) "Output Clock 0.", 23 GND (power) "Ground.", 24 VDD (power) "Core Supply Voltage.", 25 GND (power) "Ground Pad."

## Si5364-G-BC
designator U?
SONET / SDH Precision Port Card Clock IC, 3.3 V, 622 MHz Max Output, -20 to 85 degC, 99-pin BGA; Manufacturer: Silicon Labs; PartNumber: Si5364-G-BC; Output Format: CML; Output Frequency (MHz): 19; 155; 622; Reference Inputs: 3; VDD: 3.3 V; Sub-Family: Clock Generators; DatasheetVersion: Rev. 2.5; PackageReference: CBGA-99; PackageDescription: 99-Ball Ceramic Ball Grid Array, Body 11 x 11 mm, Pitch 1 mm; Supplier 1: Digi-Key; Supplier Part Number 1: 336-1280-ND; Supplier 2: Mouser; Supplier Part Number 2: 634-SI5364-G-BC; Mounting Technology: Surface Mount; Code_JEDEC: MO-192; Code_IPC: J-STD-020C; ComponentLink1Description: Manufacturer URL; ComponentLink1URL: http://www.silabs.com/; ComponentLink2Description: Datasheet; ComponentLink2URL: http://www.silabs.com/Support%20Documents/TechnicalDocs/si5364.pdf; ComponentLink3Description: Package Specification; ComponentLink3URL: http://www.silabs.com/Support Documents/TechnicalDocs/si5110.pdf
footprint SLAB-CBGA-99 (BGA, 99-Balls, Body 11x11mm, Pitch 1mm)
part A pins: A2 BWSEL[0] (in) "Bandwidth Select.", A3 FEC[0] (in) "Forward Error Correction (FEC) Selection", A4 MANCNTRL0 (in) "Manual Switching Control.", A5 FOS_A (hiz) "Frequency Offset (FOS) Alarm for CLKIN_A.", A6 FOS_B (hiz) "Frequency Offset (FOS) Alarm for CLKIN_B.", A7 A_ACTV (hiz) "CLKIN_A is Active.", A8 B_ACTV (hiz) "CLKIN_B is Active.", A9 F_ACTV (hiz) "REF/CLKIN_F is Active", A10 DH_ACTV (hiz) "Digital Hold Mode Active.", B1 AUTOSEL (in) "Automatic Switching Mode Select.", B2 BWSEL[1] (in) "Bandwidth Select.", B3 FEC[1] (in) "Forward Error Correction (FEC) Selection", B4 MANCNTRL1 (in) "Manual Switching Control.", B5 DSBLFOS (in) "Disable FOS.", B9 SMC/S3N (in) "SONET Minimum Clock/Stratum3-3E.", B10 CAL_ACTV (hiz) "Calibration Mode Active.", C1 CLKIN_A- (in) "System Clock Input A.", C2 CLKIN_A+ (in) "System Clock Input A.", C3 INCDELAY (in) "Increment Output Phase Delay.", C4 DECDELAY (in) "Decrement Output Phase Delay.", C5 FXDDELAY (in) "Fixed Delay Control.", C10 RVRT (in) "Revertive Switching.", D3 VSEL33 (in) "Select 3.3 V VDD Supply.", D10 LOS_F (hiz) "Loss-of-Signal (LOS) Alarm for REF/CLKIN_F.", E1 REF/CLKIN_F- (in) "Frequency Reference/Backup Clock Input.", E2 REF/CLKIN_F+ (in) "Frequency Reference/Backup Clock Input.", E10 LOS_B (hiz) "Loss-of-Signal (LOS) Alarm for CLKIN_B.", F10 LOS_A (hiz) "Loss-of-Signal (LOS) Alarm for CLKIN_A.", G1 CLKIN_B+ (in) "System Clock Input B.", G2 CLKIN_B- (in) "System Clock Input B.", G9 FRQSEL_4[0] (in) "Frequency Select-Clock Out 4.", G10 CLKOUT_4- (out) "Differential Clock Output 4.", H1 SYNCIN (in) "Synchronization Input for Frame Sync Clock", H2 DSBLFSYNC (in) "Disable the FSYNC Clock Output.", H9 FRQSEL_4[1] (in) "Frequency Select-Clock Out 4.", H10 CLKOUT_4+ (out) "Differential Clock Output 4.", J1 FSYNC (out) "Frame Sync Clock.", J2 VALTIME (in) "Clock Validation Time for LOS and FOS.", J3 FRQSEL_1[0] (in) "Frequency Select-Clock Out 1.", J4 FRQSEL_1[1] (in) "Frequency Select-Clock Out 1.", J6 FRQSEL_2[0] (in) "Frequency Select-Clock Out 2.", J7 FRQSEL_2[1] (in) "Frequency Select-Clock Out 2.", J9 FRQSEL_3[1] (in) "Frequency Select-Clock Out 3.", J10 FRQSEL_3[0] (in) "Frequency Select-Clock Out 3.", K1 REXT (in) "External Biasing Resistor.", K2 RSTN/CAL (in) "Reset/Calibrate.", K3 CLKOUT_1- (out) "Differential Clock Output 1.", K4 CLKOUT_1+ (out) "Differential Clock Output 1.", K6 CLKOUT_2+ (out) "Differential Clock Output 2.", K7 CLKOUT_2- (out) "Differential Clock Output 2.", K9 CLKOUT_3- (out) "Differential Clock Output 3.", K10 CLKOUT_3+ (out) "Differential Clock Output 3."
part B pins: D4 GND (power) "Ground.", D5 GND (power) "Ground.", D6 GND (power) "Ground.", D7 GND (power) "Ground.", D8 GND (power) "Ground.", D9 GND (power) "Ground.", E3 GND (power) "Ground.", E4 VDD33 (power) "3.3 V Supply.", E5 VDD33 (power) "3.3 V Supply.", E6 VDD33 (power) "3.3 V Supply.", E7 VDD25 (power) "2.5 V Supply.", E8 VDD25 (power) "2.5 V Supply.", E9 VDD25 (power) "2.5 V Supply.", F3 GND (power) "Ground.", F4 VDD33 (power) "3.3 V Supply.", F5 VDD33 (power) "3.3 V Supply.", F6 VDD33 (power) "3.3 V Supply.", F7 VDD25 (power) "2.5 V Supply.", F8 VDD25 (power) "2.5 V Supply.", F9 VDD25 (power) "2.5 V Supply.", G3 GND (power) "Ground.", G4 VDD25 (power) "2.5 V Supply.", G5 VDD25 (power) "2.5 V Supply.", G6 VDD25 (power) "2.5 V Supply.", G7 VDD25 (power) "2.5 V Supply.", G8 VDD25 (power) "2.5 V Supply.", H3 GND (power) "Ground.", H4 GND (power) "Ground.", H5 GND (power) "Ground.", H6 GND (power) "Ground.", H7 GND (power) "Ground.", H8 VDD25 (power) "2.5 V Supply.", J5 GND (power) "Ground.", J8 VDD25 (power) "2.5 V Supply.", K5 GND (power) "Ground.", K8 VDD25 (power) "2.5 V Supply."
part C pins: B6 RSVD_NC "Reserved-No Connect.", B7 RSVD_NC "Reserved-No Connect.", B8 RSVD_NC "Reserved-No Connect.", C6 RSVD_NC "Reserved-No Connect.", C7 RSVD_GND (power) "Reserved-Tie to Ground.", C8 RSVD_GND (power) "Reserved-Tie to Ground.", C9 RSVD_GND (power) "Reserved-Tie to Ground.", D1 RSVD_GND (power) "Reserved-Tie to Ground.", D2 RSVD_GND (power) "Reserved-Tie to Ground.", F1 RSVD_GND (power) "Reserved-Tie to Ground.", F2 RSVD_GND (power) "Reserved-Tie to Ground."

## Si5364-H-BL
designator U?
SONTE / SDH Precision Port Card Clock IC, 3.3 V, 622 MHz Max Output, -20 to 85 degC, 99-pin BGA; Manufacturer: Silicon Labs; PartNumber: Si5364-H-BL; Output Format: CML; Output Frequency (MHz): 19; 155; 622; Reference Inputs: 3; VDD: 3.3 V; Sub-Family: Clock Generators; DatasheetVersion: Rev. 2.5; PackageReference: PBGA-99; PackageDescription: 99-Ball Plastic Ball Grid Array, Body 11 x 11 mm, Pitch 1 mm; Supplier 1: Digi-Key; Supplier Part Number 1: SI5364-H-BL-ND; Supplier 2: Mouser; Supplier Part Number 2: 634-SI5364-H-BL; Mounting Technology: Surface Mount; Code_JEDEC: MO-192; Code_IPC: J-STD-020C; ComponentLink1Description: Manufacturer URL; ComponentLink1URL: http://www.silabs.com/; ComponentLink2Description: Datasheet; ComponentLink2URL: http://www.silabs.com/Support%20Documents/TechnicalDocs/si5364.pdf; ComponentLink3Description: Package Specification; ComponentLink3URL: http://www.silabs.com/Support%20Documents/TechnicalDocs/si5364.pdf
footprint SLAB-PBGA-99 (BGA, 99-Balls, Body 11x11mm, Pitch 1mm)
part A pins: A2 BWSEL[0] (in) "Bandwidth Select.", A3 FEC[0] (in) "Forward Error Correction (FEC) Selection", A4 MANCNTRL0 (in) "Manual Switching Control.", A5 FOS_A (hiz) "Frequency Offset (FOS) Alarm for CLKIN_A.", A6 FOS_B (hiz) "Frequency Offset (FOS) Alarm for CLKIN_B.", A7 A_ACTV (hiz) "CLKIN_A is Active.", A8 B_ACTV (hiz) "CLKIN_B is Active.", A9 F_ACTV (hiz) "REF/CLKIN_F is Active", A10 DH_ACTV (hiz) "Digital Hold Mode Active.", B1 AUTOSEL (in) "Automatic Switching Mode Select.", B2 BWSEL[1] (in) "Bandwidth Select.", B3 FEC[1] (in) "Forward Error Correction (FEC) Selection", B4 MANCNTRL1 (in) "Manual Switching Control.", B5 DSBLFOS (in) "Disable FOS.", B9 SMC/S3N (in) "SONET Minimum Clock/Stratum3-3E.", B10 CAL_ACTV (hiz) "Calibration Mode Active.", C1 CLKIN_A- (in) "System Clock Input A.", C2 CLKIN_A+ (in) "System Clock Input A.", C3 INCDELAY (in) "Increment Output Phase Delay.", C4 DECDELAY (in) "Decrement Output Phase Delay.", C5 FXDDELAY (in) "Fixed Delay Control.", C10 RVRT (in) "Revertive Switching.", D3 VSEL33 (in) "Select 3.3 V VDD Supply.", D10 LOS_F (hiz) "Loss-of-Signal (LOS) Alarm for REF/CLKIN_F.", E1 REF/CLKIN_F- (in) "Frequency Reference/Backup Clock Input.", E2 REF/CLKIN_F+ (in) "Frequency Reference/Backup Clock Input.", E10 LOS_B (hiz) "Loss-of-Signal (LOS) Alarm for CLKIN_B.", F10 LOS_A (hiz) "Loss-of-Signal (LOS) Alarm for CLKIN_A.", G1 CLKIN_B+ (in) "System Clock Input B.", G2 CLKIN_B- (in) "System Clock Input B.", G9 FRQSEL_4[0] (in) "Frequency Select-Clock Out 4.", G10 CLKOUT_4- (out) "Differential Clock Output 4.", H1 SYNCIN (in) "Synchronization Input for Frame Sync Clock", H2 DSBLFSYNC (in) "Disable the FSYNC Clock Output.", H9 FRQSEL_4[1] (in) "Frequency Select-Clock Out 4.", H10 CLKOUT_4+ (out) "Differential Clock Output 4.", J1 FSYNC (out) "Frame Sync Clock.", J2 VALTIME (in) "Clock Validation Time for LOS and FOS.", J3 FRQSEL_1[0] (in) "Frequency Select-Clock Out 1.", J4 FRQSEL_1[1] (in) "Frequency Select-Clock Out 1.", J6 FRQSEL_2[0] (in) "Frequency Select-Clock Out 2.", J7 FRQSEL_2[1] (in) "Frequency Select-Clock Out 2.", J9 FRQSEL_3[1] (in) "Frequency Select-Clock Out 3.", J10 FRQSEL_3[0] (in) "Frequency Select-Clock Out 3.", K1 REXT (in) "External Biasing Resistor.", K2 RSTN/CAL (in) "Reset/Calibrate.", K3 CLKOUT_1- (out) "Differential Clock Output 1.", K4 CLKOUT_1+ (out) "Differential Clock Output 1.", K6 CLKOUT_2+ (out) "Differential Clock Output 2.", K7 CLKOUT_2- (out) "Differential Clock Output 2.", K9 CLKOUT_3- (out) "Differential Clock Output 3.", K10 CLKOUT_3+ (out) "Differential Clock Output 3."
part B pins: D4 GND (power) "Ground.", D5 GND (power) "Ground.", D6 GND (power) "Ground.", D7 GND (power) "Ground.", D8 GND (power) "Ground.", D9 GND (power) "Ground.", E3 GND (power) "Ground.", E4 VDD33 (power) "3.3 V Supply.", E5 VDD33 (power) "3.3 V Supply.", E6 VDD33 (power) "3.3 V Supply.", E7 VDD25 (power) "2.5 V Supply.", E8 VDD25 (power) "2.5 V Supply.", E9 VDD25 (power) "2.5 V Supply.", F3 GND (power) "Ground.", F4 VDD33 (power) "3.3 V Supply.", F5 VDD33 (power) "3.3 V Supply.", F6 VDD33 (power) "3.3 V Supply.", F7 VDD25 (power) "2.5 V Supply.", F8 VDD25 (power) "2.5 V Supply.", F9 VDD25 (power) "2.5 V Supply.", G3 GND (power) "Ground.", G4 VDD25 (power) "2.5 V Supply.", G5 VDD25 (power) "2.5 V Supply.", G6 VDD25 (power) "2.5 V Supply.", G7 VDD25 (power) "2.5 V Supply.", G8 VDD25 (power) "2.5 V Supply.", H3 GND (power) "Ground.", H4 GND (power) "Ground.", H5 GND (power) "Ground.", H6 GND (power) "Ground.", H7 GND (power) "Ground.", H8 VDD25 (power) "2.5 V Supply.", J5 GND (power) "Ground.", J8 VDD25 (power) "2.5 V Supply.", K5 GND (power) "Ground.", K8 VDD25 (power) "2.5 V Supply."
part C pins: B6 RSVD_NC "Reserved-No Connect.", B7 RSVD_NC "Reserved-No Connect.", B8 RSVD_NC "Reserved-No Connect.", C6 RSVD_NC "Reserved-No Connect.", C7 RSVD_GND (power) "Reserved-Tie to Ground.", C8 RSVD_GND (power) "Reserved-Tie to Ground.", C9 RSVD_GND (power) "Reserved-Tie to Ground.", D1 RSVD_GND (power) "Reserved-Tie to Ground.", D2 RSVD_GND (power) "Reserved-Tie to Ground.", F1 RSVD_GND (power) "Reserved-Tie to Ground.", F2 RSVD_GND (power) "Reserved-Tie to Ground."

## Si5364-H-GL
designator U?
SONTE / SDH Precision Port Card Clock IC, 3.3 V, 622 MHz Max Output, -20 to 85 degC, 99-pin BGA; Manufacturer: Silicon Labs; PartNumber: Si5364-H-GL; Output Format: CML; Output Frequency (MHz): 19; 155; 622; Reference Inputs: 3; VDD: 3.3 V; Sub-Family: Clock Generators; DatasheetVersion: Rev. 2.5; PackageReference: PBGA-99; PackageDescription: 99-Ball Plastic Ball Grid Array, Body 11 x 11 mm, Pitch 1 mm; Supplier 1: Digi-Key; Supplier Part Number 1: SI5364-H-GL-ND; Supplier 2: Mouser; Supplier Part Number 2: 634-SI5364-H-GL; Mounting Technology: Surface Mount; Code_JEDEC: MO-192; Code_IPC: J-STD-020C; ComponentLink1Description: Manufacturer URL; ComponentLink1URL: http://www.silabs.com/; ComponentLink2Description: Datasheet; ComponentLink2URL: http://www.silabs.com/Support%20Documents/TechnicalDocs/si5364.pdf; ComponentLink3Description: Package Specification; ComponentLink3URL: http://www.silabs.com/Support%20Documents/TechnicalDocs/si5364.pdf
footprint SLAB-PBGA-99 (BGA, 99-Balls, Body 11x11mm, Pitch 1mm)
part A pins: A2 BWSEL[0] (in) "Bandwidth Select.", A3 FEC[0] (in) "Forward Error Correction (FEC) Selection", A4 MANCNTRL0 (in) "Manual Switching Control.", A5 FOS_A (hiz) "Frequency Offset (FOS) Alarm for CLKIN_A.", A6 FOS_B (hiz) "Frequency Offset (FOS) Alarm for CLKIN_B.", A7 A_ACTV (hiz) "CLKIN_A is Active.", A8 B_ACTV (hiz) "CLKIN_B is Active.", A9 F_ACTV (hiz) "REF/CLKIN_F is Active", A10 DH_ACTV (hiz) "Digital Hold Mode Active.", B1 AUTOSEL (in) "Automatic Switching Mode Select.", B2 BWSEL[1] (in) "Bandwidth Select.", B3 FEC[1] (in) "Forward Error Correction (FEC) Selection", B4 MANCNTRL1 (in) "Manual Switching Control.", B5 DSBLFOS (in) "Disable FOS.", B9 SMC/S3N (in) "SONET Minimum Clock/Stratum3-3E.", B10 CAL_ACTV (hiz) "Calibration Mode Active.", C1 CLKIN_A- (in) "System Clock Input A.", C2 CLKIN_A+ (in) "System Clock Input A.", C3 INCDELAY (in) "Increment Output Phase Delay.", C4 DECDELAY (in) "Decrement Output Phase Delay.", C5 FXDDELAY (in) "Fixed Delay Control.", C10 RVRT (in) "Revertive Switching.", D3 VSEL33 (in) "Select 3.3 V VDD Supply.", D10 LOS_F (hiz) "Loss-of-Signal (LOS) Alarm for REF/CLKIN_F.", E1 REF/CLKIN_F- (in) "Frequency Reference/Backup Clock Input.", E2 REF/CLKIN_F+ (in) "Frequency Reference/Backup Clock Input.", E10 LOS_B (hiz) "Loss-of-Signal (LOS) Alarm for CLKIN_B.", F10 LOS_A (hiz) "Loss-of-Signal (LOS) Alarm for CLKIN_A.", G1 CLKIN_B+ (in) "System Clock Input B.", G2 CLKIN_B- (in) "System Clock Input B.", G9 FRQSEL_4[0] (in) "Frequency Select-Clock Out 4.", G10 CLKOUT_4- (out) "Differential Clock Output 4.", H1 SYNCIN (in) "Synchronization Input for Frame Sync Clock", H2 DSBLFSYNC (in) "Disable the FSYNC Clock Output.", H9 FRQSEL_4[1] (in) "Frequency Select-Clock Out 4.", H10 CLKOUT_4+ (out) "Differential Clock Output 4.", J1 FSYNC (out) "Frame Sync Clock.", J2 VALTIME (in) "Clock Validation Time for LOS and FOS.", J3 FRQSEL_1[0] (in) "Frequency Select-Clock Out 1.", J4 FRQSEL_1[1] (in) "Frequency Select-Clock Out 1.", J6 FRQSEL_2[0] (in) "Frequency Select-Clock Out 2.", J7 FRQSEL_2[1] (in) "Frequency Select-Clock Out 2.", J9 FRQSEL_3[1] (in) "Frequency Select-Clock Out 3.", J10 FRQSEL_3[0] (in) "Frequency Select-Clock Out 3.", K1 REXT (in) "External Biasing Resistor.", K2 RSTN/CAL (in) "Reset/Calibrate.", K3 CLKOUT_1- (out) "Differential Clock Output 1.", K4 CLKOUT_1+ (out) "Differential Clock Output 1.", K6 CLKOUT_2+ (out) "Differential Clock Output 2.", K7 CLKOUT_2- (out) "Differential Clock Output 2.", K9 CLKOUT_3- (out) "Differential Clock Output 3.", K10 CLKOUT_3+ (out) "Differential Clock Output 3."
part B pins: D4 GND (power) "Ground.", D5 GND (power) "Ground.", D6 GND (power) "Ground.", D7 GND (power) "Ground.", D8 GND (power) "Ground.", D9 GND (power) "Ground.", E3 GND (power) "Ground.", E4 VDD33 (power) "3.3 V Supply.", E5 VDD33 (power) "3.3 V Supply.", E6 VDD33 (power) "3.3 V Supply.", E7 VDD25 (power) "2.5 V Supply.", E8 VDD25 (power) "2.5 V Supply.", E9 VDD25 (power) "2.5 V Supply.", F3 GND (power) "Ground.", F4 VDD33 (power) "3.3 V Supply.", F5 VDD33 (power) "3.3 V Supply.", F6 VDD33 (power) "3.3 V Supply.", F7 VDD25 (power) "2.5 V Supply.", F8 VDD25 (power) "2.5 V Supply.", F9 VDD25 (power) "2.5 V Supply.", G3 GND (power) "Ground.", G4 VDD25 (power) "2.5 V Supply.", G5 VDD25 (power) "2.5 V Supply.", G6 VDD25 (power) "2.5 V Supply.", G7 VDD25 (power) "2.5 V Supply.", G8 VDD25 (power) "2.5 V Supply.", H3 GND (power) "Ground.", H4 GND (power) "Ground.", H5 GND (power) "Ground.", H6 GND (power) "Ground.", H7 GND (power) "Ground.", H8 VDD25 (power) "2.5 V Supply.", J5 GND (power) "Ground.", J8 VDD25 (power) "2.5 V Supply.", K5 GND (power) "Ground.", K8 VDD25 (power) "2.5 V Supply."
part C pins: B6 RSVD_NC "Reserved-No Connect.", B7 RSVD_NC "Reserved-No Connect.", B8 RSVD_NC "Reserved-No Connect.", C6 RSVD_NC "Reserved-No Connect.", C7 RSVD_GND (power) "Reserved-Tie to Ground.", C8 RSVD_GND (power) "Reserved-Tie to Ground.", C9 RSVD_GND (power) "Reserved-Tie to Ground.", D1 RSVD_GND (power) "Reserved-Tie to Ground.", D2 RSVD_GND (power) "Reserved-Tie to Ground.", F1 RSVD_GND (power) "Reserved-Tie to Ground.", F2 RSVD_GND (power) "Reserved-Tie to Ground."